# Altium footprint library srp5050fa.PcbLib: 1 footprints
Each footprint in its own frame and in the unit in brackets; x right, y up, seen from the top. Pads: shape width x height; smd on the part's side, far side on the other; paste and mask are expansions set on the pad; w line width, h text height; cw(c..) or ccw(c..) is an arc to the next point about the centre after c.
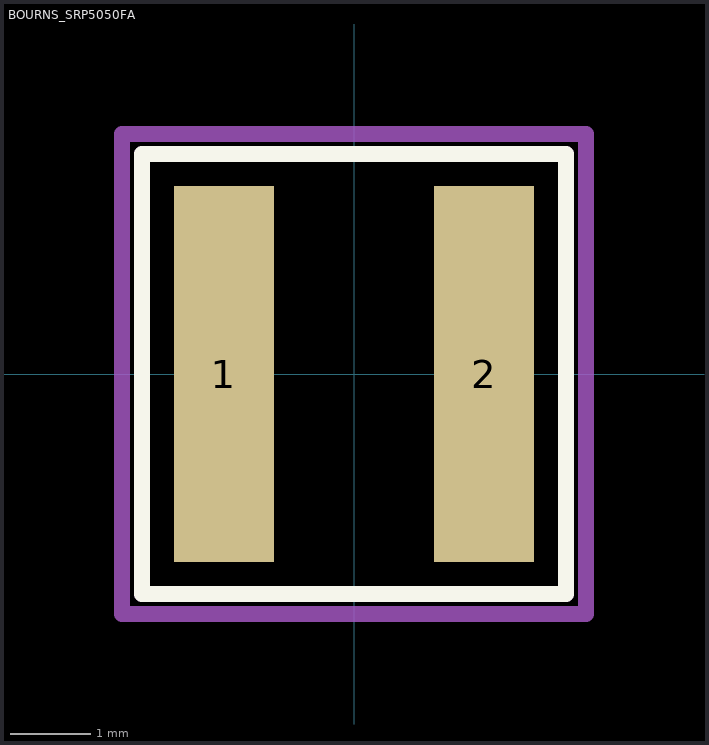
[diagram p0: the footprint, top view; thin cyan lines are the x and y axes]

## BOURNS_SRP5050FA [mm]
height 5
pads (2):
  rect 1.25x4.7 smd: 1(-1.625,0) 2(1.625,0)
Top Overlay:
  lines w0.2: -2.65,-2.75 2.65,-2.75 2.65,2.75 -2.65,2.75 -2.65,-2.75
Top 3D Body:
  lines w0.2: -2.65,-2.75 -2.65,2.75 2.65,2.75 2.65,-2.75 -2.65,-2.75
Top Courtyard:
  lines w0.2: -2.9,-3 2.9,-3 2.9,3 -2.9,3 -2.9,-3
Top Designator:
  text ".Designator" at -1.3,-0.2 h0.6
3D body "SRP5050FA.stp": height 4.82, standoff 0.01, extent -2.65,-2.75 2.65,2.75